# Altium footprint library sma_molex_smd_Components - 15.03.22 - 13.34.PcbLib: 1 footprints
Each footprint in its own frame and in the unit in brackets; x right, y up, seen from the top. Pads: shape width x height; smd on the part's side, far side on the other; paste and mask are expansions set on the pad; w line width, h text height; cw(c..) or ccw(c..) is an arc to the next point about the centre after c.
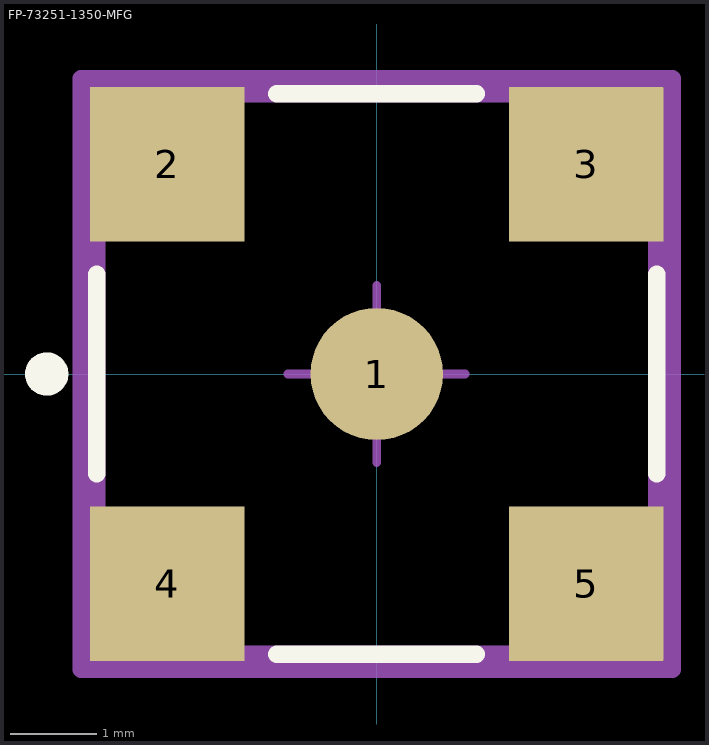
[diagram p0: the footprint, top view; thin cyan lines are the x and y axes]

## FP-73251-1350-MFG [mil]
pads (5):
  round 60 smd paste+0 mask+0: 1(0,0)
  rect 70x70 smd paste+0 mask+0: 2(-95,95) 3(95,95) 4(-95,-95) 5(95,-95)
Top Overlay:
  circle w9.84: c-149.61,0 r4.92
  lines w7.87: -126.97,-45.24 -126.97,45.24 ; -45.24,-126.97 45.24,-126.97 ; -45.24,126.97 45.24,126.97 ; 126.97,-45.24 126.97,45.24
Top Assembly:
  lines w7.87: -133.94,-133.94 -133.94,133.94 133.94,133.94 133.94,-133.94 -133.94,-133.94
  text ".Designator" at 0,-0.02 h39.37
Top 3D Body:
  lines w7.87: -126.97,-126.97 -126.97,126.97 126.97,126.97 126.97,-126.97 -126.97,-126.97
Top Courtyard:
  lines w7.87: -133.94,-133.94 -133.94,133.94 133.94,133.94 133.94,-133.94 -133.94,-133.94
Top Component Center:
  lines w3.94: -40.18,0 40.18,0 ; 0,-40.18 0,40.18
3D body "Conn_Molex_73251-1350_eec.STEP": height 10, standoff 0, extent -133.94,-133.94 133.94,133.94